# EAGLE library part LM22672 (library National Semiconductor)
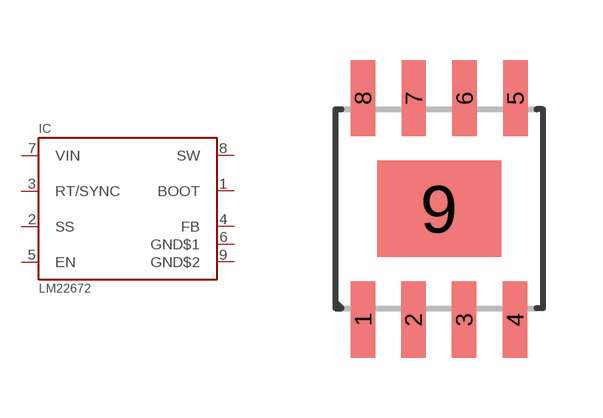
[diagram p1: symbol with the pads of PSOP8; footprint PSOP8]

Designator prefix IC

## LM22672  [PSOP8]
1  BOOT  pas
2  SS  pas
3  RT/SYNC  pas
4  FB  pas
5  EN  in
6  GND$1  pwr
7  VIN  pwr
8  SW  pas
9  GND$2  pwr

## Footprint PSOP8 (pad centres in mm)
Small Outline Package
smd 0.61 x 1.905: 1 -1.905,-2.773; 2 -0.645,-2.773; 3 0.625,-2.773; 4 1.895,-2.773; 5 1.905,2.773; 6 0.635,2.773; 7 -0.635,2.773; 8 -1.905,2.773
smd 3.099 x 2.413: 9 0,0